# Altium footprint library 2.07-SOT封装.PcbLib: 39 footprints (part 2 of 3)
Each footprint in its own frame and in the unit in brackets; x right, y up, seen from the top. Pads: shape width x height; smd on the part's side, far side on the other; paste and mask are expansions set on the pad; w line width, h text height; cw(c..) or ccw(c..) is an arc to the next point about the centre after c.
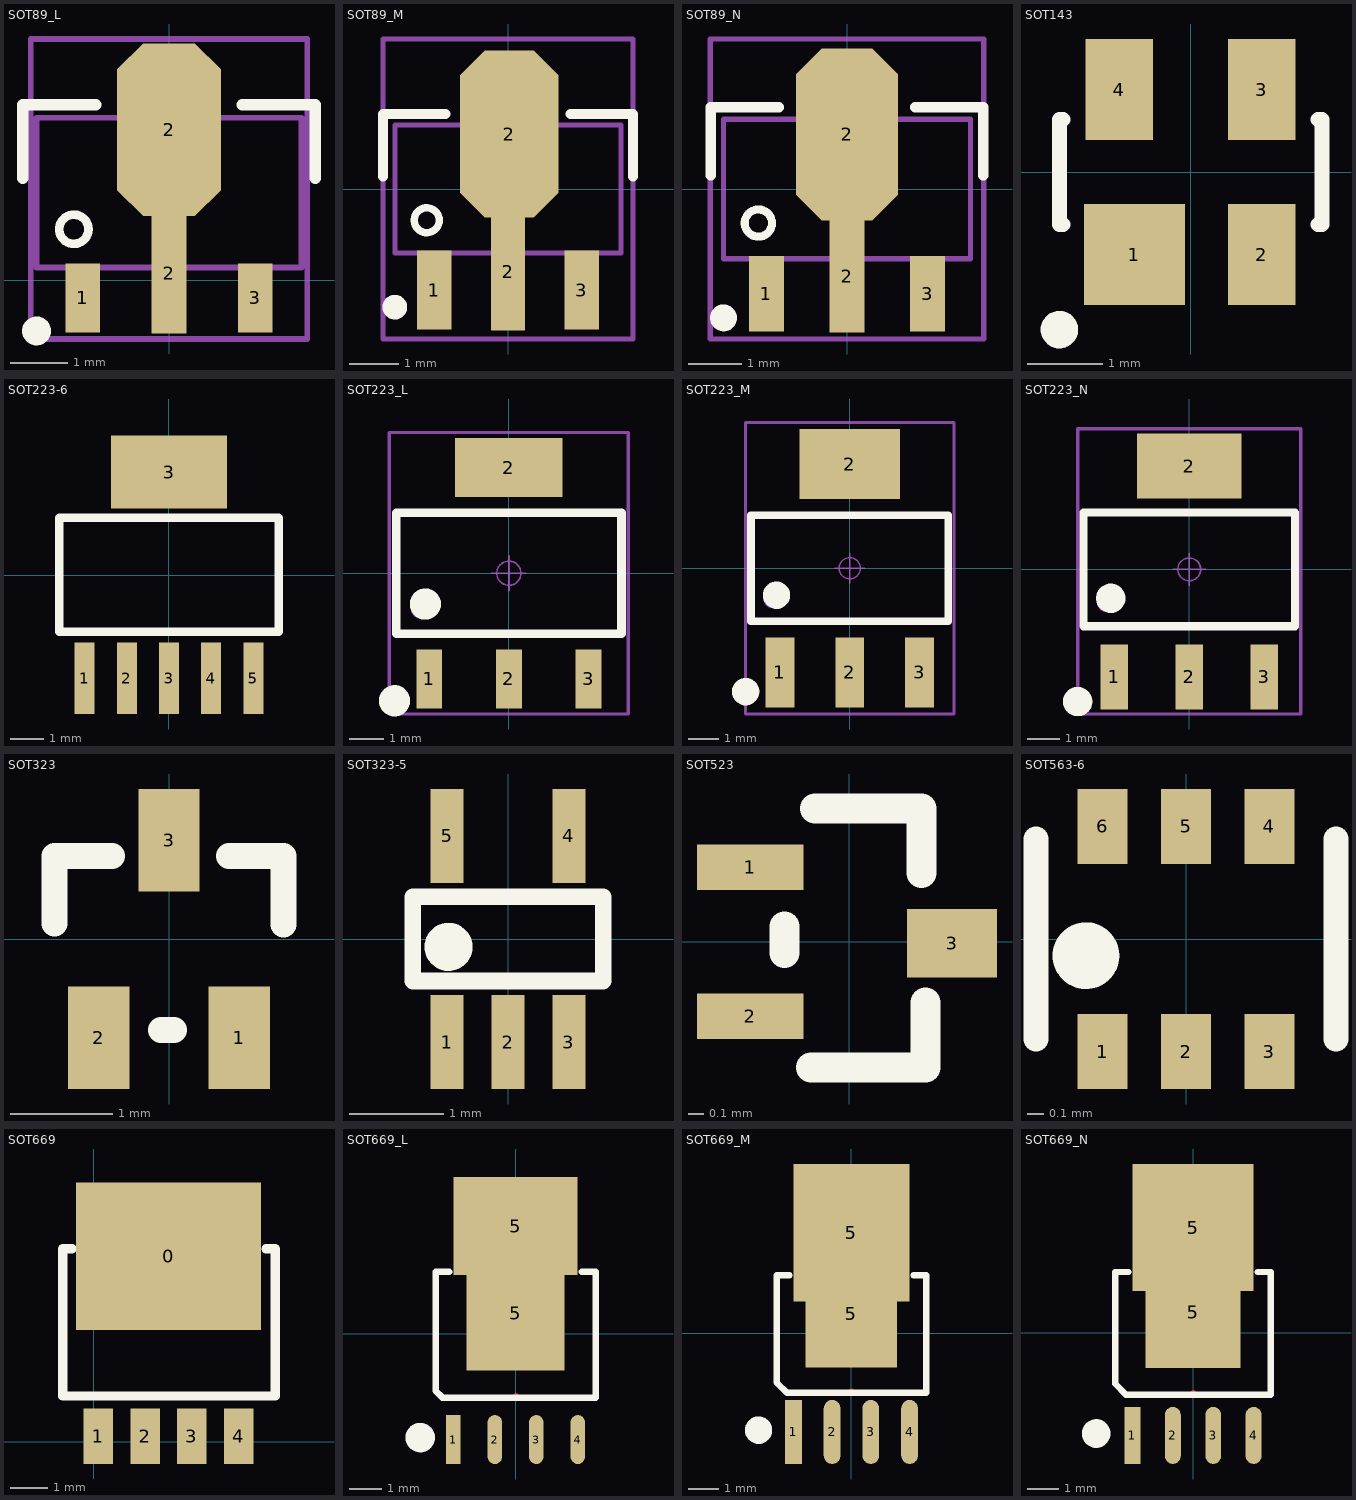
[diagram p1: the footprints below, top view; thin cyan lines are the x and y axes]

## SOT89_L [mm] "4.6x4.3x1.6mm(长宽高)"
height 1.6
pads (4):
  rect 0.6x1.2 smd: 1(-1.5,-0.303) 3(1.5,-0.303)
  rect 0.6x2.1 smd: 2(0,0.127)
  oct 1.8x3 smd: 2(0,2.616)
Top Overlay:
  circle w0.25: c-2.3,-0.876 r0.125
  circle w0.15: c-1.651,0.889 r0.254
  lines w0.2: -2.54,1.778 -2.54,3.048 -1.27,3.048 ; 1.27,3.048 2.54,3.048 2.54,1.778
Mechanical 13:
  circle w0.1: c-1.651,0.889 r0.25
  lines w0.1: -2.3,0.224 2.3,0.224 2.3,2.824 -2.3,2.824 -2.3,0.224
Mechanical 15:
  circle w0.05: c0,1.524 r0.35
  lines w0.05: -0.5,1.524 0.5,1.524 ; 0,1.024 0,2.024
  lines w0.1: -2.4,-1.016 2.4,-1.016 2.4,4.191 -2.4,4.191 -2.4,-1.016
3D body "SOT89.STEP": height 1.6, standoff 0.04, extent -2.3,-0.876 2.3,3.424

## SOT89_M [mm] "4.6x4.3x1.6mm(长宽高) 封装库来自淘宝卖家 ID：黄晶宝石"
height 1.6
pads (4):
  rect 0.7x1.6 smd: 1(-1.5,-2.054) 3(1.5,-2.054)
  rect 0.7x2.4 smd: 2(0,-1.676)
  oct 2x3.4 smd: 2(0.025,1.118)
Top Overlay:
  circle w0.15: c-1.651,-0.635 r0.254
  circle w0.25: c-2.3,-2.4 r0.125
  lines w0.2: -2.54,0.254 -2.54,1.524 -1.27,1.524 ; 1.27,1.524 2.54,1.524 2.54,0.254
Mechanical 13:
  circle w0.1: c-1.651,-0.635 r0.25
  lines w0.1: -2.3,-1.3 -2.3,1.3 2.3,1.3 2.3,-1.3 -2.3,-1.3
Mechanical 15:
  circle w0.05: c0,0 r0.35
  lines w0.05: -0.5,0 0.5,0 ; 0,-0.5 0,0.5
  lines w0.1: -2.54,-3.048 2.54,-3.048 2.54,3.048 -2.54,3.048 -2.54,-3.048
3D body "SOT89.STEP": height 1.6, standoff 0.04, extent -2.3,-2.4 2.3,1.9

## SOT89_N [mm] "4.6x4.3x1.6mm(长宽高) 封装库来自淘宝卖家 ID：黄晶宝石"
height 1.6
pads (4):
  rect 0.65x1.4 smd: 1(-1.5,-1.952) 3(1.5,-1.952)
  rect 0.65x2.1 smd: 2(0,-1.626)
  oct 1.9x3.2 smd: 2(0,1.016)
Top Overlay:
  circle w0.15: c-1.651,-0.635 r0.254
  circle w0.25: c-2.3,-2.4 r0.125
  lines w0.2: -2.54,0.254 -2.54,1.524 -1.27,1.524 ; 1.27,1.524 2.54,1.524 2.54,0.254
Mechanical 13:
  circle w0.1: c-1.651,-0.635 r0.25
  lines w0.1: -2.3,-1.3 -2.3,1.3 2.3,1.3 2.3,-1.3 -2.3,-1.3
Mechanical 15:
  circle w0.05: c0,0 r0.35
  lines w0.05: -0.5,0 0.5,0 ; 0,-0.5 0,0.5
  lines w0.1: -2.55,-2.794 2.55,-2.794 2.55,2.794 -2.55,2.794 -2.55,-2.794
3D body "SOT89.STEP": height 1.6, standoff 0.04, extent -2.3,-2.4 2.3,1.9

## SOT143 [mm] "SOT-143; 4 Leads; Body 3 x 2.6 mm, inc. leads (LxW max)"
height 1.1
pads (4):
  rect 1.35x1.35 smd: 1(-0.75,-1.1)
  rect 0.9x1.35 smd: 2(0.95,-1.1) 3(0.95,1.1) 4(-0.95,1.1)
Top Overlay:
  circle w0.25: c-1.75,-2.1 r0.125
  lines w0.2: -1.7,-0.7 -1.75,-0.7 -1.75,0.7 -1.7,0.7 ; 1.7,-0.7 1.75,-0.7 1.75,0.7 1.7,0.7
3D body: height 0.2, standoff 0, extent -1.149,0.408 -0.803,1.459
3D body: height 0.2, standoff 0, extent 0.784,0.408 1.13,1.459
3D body: height 0.2, standoff 0, extent -1.166,-1.503 -0.82,-0.452
3D body: height 0.2, standoff 0, extent 0.779,-1.464 1.125,-0.414
3D body: height 0.8, standoff 0, extent -1.516,-0.878 1.514,0.931

## SOT223-6 [mm] "封装库来自淘宝卖家 ID：黄晶宝石"
pads (6):
  rect 0.6x2.15 smd: 1(-2.54,-3.1) 2(-1.27,-3.1) 3(0,-3.1) 4(1.27,-3.1) 5(2.54,-3.1)
  rect 3.5x2.2 smd: 3(0,3.1)
Top Overlay:
  lines w0.254: -3.3,-1.7 -3.3,1.73 3.3,1.73 3.3,-1.7 -3.3,-1.7
3D body "User Library-SOT223-6.STEP": height 1.9, standoff -0.17, extent -3.299,-3.681 3.251,3.579

## SOT223_L [mm] "6.4x7x1.6mm(长宽高)"
height 1.7
pads (4):
  rect 0.75x1.7 smd: 1(-2.3,-3.048) 2(0,-3.048) 3(2.3,-3.048)
  rect 3.1x1.7 smd: 2(0,3.048)
Top Overlay:
  circle w0.5: c-3.302,-3.683 r0.2
  circle w0.5: c-2.413,-0.889 r0.2
  lines w0.25: -3.25,-1.75 3.25,-1.75 3.25,1.75 -3.25,1.75 -3.25,-1.75
Mechanical 13:
  circle w0.1: c-2.536,-1.016 r0.25
  lines w0.1: -3.25,-1.75 3.25,-1.75 3.25,1.75 -3.25,1.75 -3.25,-1.75
Mechanical 15:
  circle w0.05: c0,0 r0.35
  lines w0.05: -0.5,0 0.5,0 ; 0,-0.5 0,0.5
  lines w0.1: -3.45,-4.064 3.45,-4.064 3.45,4.064 -3.45,4.064 -3.45,-4.064
3D body "SOT223.STEP": height 1.65, standoff -0.02, extent -3.25,-3.508 3.25,3.508

## SOT223_M [mm] "6.4x7x1.6mm(长宽高)       淘宝ID:黄晶宝石"
height 1.7
pads (4):
  rect 0.95x2.3 smd: 1(-2.3,-3.429) 2(0,-3.429) 3(2.3,-3.429)
  rect 3.3x2.3 smd: 2(0,3.429)
Top Overlay:
  circle w0.5: c-2.413,-0.889 r0.2
  circle w0.5: c-3.429,-4.064 r0.2
  lines w0.25: -3.25,-1.75 -3.25,1.75 3.25,1.75 3.25,-1.75 -3.25,-1.75
Mechanical 13:
  circle w0.1: c-2.536,-1.016 r0.25
  lines w0.1: -3.25,-1.75 3.25,-1.75 3.25,1.75 -3.25,1.75 -3.25,-1.75
Mechanical 15:
  circle w0.05: c0,0 r0.35
  lines w0.05: -0.5,0 0.5,0 ; 0,-0.5 0,0.5
  lines w0.1: -3.429,-4.8 3.429,-4.8 3.429,4.8 -3.429,4.8 -3.429,-4.8
3D body "SOT223.STEP": height 1.65, standoff -0.02, extent -3.25,-3.508 3.25,3.508

## SOT223_N [mm] "6.4x7x1.6mm(长宽高)"
height 1.7
pads (4):
  rect 0.85x2 smd: 1(-2.3,-3.302) 2(0,-3.302) 3(2.3,-3.302)
  rect 3.2x2 smd: 2(0,3.175)
Top Overlay:
  circle w0.5: c-2.413,-0.889 r0.2
  circle w0.5: c-3.429,-4.064 r0.2
  lines w0.25: -3.25,-1.75 -3.25,1.75 3.25,1.75 3.25,-1.75 -3.25,-1.75
Mechanical 13:
  circle w0.1: c-2.536,-1.016 r0.25
  lines w0.1: -3.25,-1.75 3.25,-1.75 3.25,1.75 -3.25,1.75 -3.25,-1.75
Mechanical 15:
  circle w0.05: c0,0 r0.35
  lines w0.05: -0.5,0 0.5,0 ; 0,-0.5 0,0.5
  lines w0.1: -3.429,-4.445 3.429,-4.445 3.429,4.318 -3.429,4.318 -3.429,-4.445
3D body "SOT223.STEP": height 1.65, standoff -0.02, extent -3.25,-3.508 3.25,3.508

## SOT323 [mm] "封装库来自淘宝卖家 ID：黄晶宝石"
pads (3):
  rect 0.6x1 smd: 1(0.686,-0.965) 2(-0.686,-0.965) 3(0,0.965)
Top Overlay:
  lines w0.254: -1.118,0.152 -1.118,0.813 -0.559,0.813 ; -0.076,-0.889 0.051,-0.889 ; 0.584,0.813 1.118,0.813 1.118,0.143
3D body "SOT323 (SC70-3)-1.STEP": height 1.1, standoff 0, extent -1.092,-1.097 1.108,1.148

## SOT323-5 [mm] "SC70 封装库来自淘宝卖家 ID：黄晶宝石"
pads (5):
  rect 0.35x1 smd: 1(-0.65,-1.1) 2(0,-1.1) 3(0.65,-1.1) 4(0.65,1.1) 5(-0.65,1.1)
Top Overlay:
  circle w0.254: c-0.635,-0.084 r0.13
  lines w0.178: -1.016,-0.447 -1.016,0.449 1.016,0.449 1.016,-0.447 -1.016,-0.447
3D body "sot353.step": height 1, standoff 0, extent -1.05,-1.158 1.05,1.142

## SOT523 [mil] "封装库来自淘宝卖家 ID：黄晶宝石"
pads (3):
  rect 28x12 smd: 1(-25.98,19.58) 2(-25.98,-19.58)
  rect 23.62x18 smd: 3(26.98,-0.46)
Top Overlay:
  lines w7.87: -17,-3 -17,4 ; -10,-33 20,-33 20,-16 ; -9,35 19,35 19,18
3D body "SOT-523.step": height 31.5, standoff 0, extent -32.5,-31.49 30.49,31.5

## SOT563-6 [mm] "封装库来自淘宝卖家 ID：黄晶宝石"
pads (6):
  rect 0.3x0.45 smd: 1(-0.5,-0.675) 2(0,-0.675) 3(0.5,-0.675) 4(0.5,0.675) 5(0,0.675) 6(-0.5,0.675)
Top Overlay:
  circle w0.2: c-0.6,-0.1 r0.1
  lines w0.15: -0.9,-0.6 -0.9,0.6 ; 0.9,-0.6 0.9,0.6
3D body "SW3dPS-SOT-563.STEP": height 0.58, standoff 0, extent -0.8,-0.8 0.8,0.826

## SOT669 [mm] "IFPAK       淘宝ID:黄晶宝石"
pads (5):
  rect 5x4 smd: 0(2.032,5.029)
  rect 0.8x1.5 smd: 1(0.127,0.152) 2(1.397,0.152) 3(2.667,0.152) 4(3.937,0.152)
Top Overlay:
  lines w0.254: -0.584,5.232 -0.838,5.232 -0.838,1.245 4.928,1.245 4.928,5.232 4.674,5.232
3D body "User Library-SOT669-CW.step": height 1.55, standoff 0.35, extent -0.418,-0.002 4.482,6.426

## SOT669_L [mm] "6mm*4.9mm*1mm(长*宽*高）"
pads (6):
  rect 0.45x1.5 smd: 1(-1.905,-3.234)
  oval 0.45x1.5 smd: 2(-0.635,-3.234) 3(0.635,-3.234) 4(1.905,-3.234)
  rect 3x3.5 smd: 5(0,0.635)
  rect 3.8x3 smd: 5(0,3.302)
Top Layer:
  lines w0.203: 0,-1.905 0,-1.905
Top Overlay:
  circle w0.5: c-2.921,-3.175 r0.2
  lines w0.203: -2.032,1.905 -2.45,1.905 -2.45,-1.741 -2.241,-1.95 2.45,-1.95 2.45,1.905 2.032,1.905
Mechanical 15:
  circle w0.05: c0,0 r0.35
  lines w0.05: -0.5,0 0.5,0 ; 0,-0.5 0,0.5
3D body "SOT669.STEP": height 1.1, standoff -0.01, extent -2.45,-3.022 2.45,3.1

## SOT669_M [mm] "6mm*4.9mm*1mm(长*宽*高）"
pads (6):
  rect 0.55x2.1 smd: 1(-1.905,-3.234)
  oval 0.55x2.1 smd: 2(-0.635,-3.234) 3(0.635,-3.234) 4(1.905,-3.234)
  rect 3x3.5 smd: 5(0,0.635)
  rect 3.8x4.5 smd: 5(0,3.302)
Top Layer:
  lines w0.203: 0,-1.905 0,-1.905
Top Overlay:
  circle w0.5: c-3.048,-3.175 r0.2
  lines w0.203: -2.032,1.905 -2.45,1.905 -2.45,-1.614 -2.114,-1.95 2.45,-1.95 2.45,1.905 2.032,1.905
Mechanical 15:
  circle w0.05: c0,0 r0.35
  lines w0.05: -0.5,0 0.5,0 ; 0,-0.5 0,0.5
3D body "SOT669.STEP": height 1.1, standoff -0.01, extent -2.45,-3.022 2.45,3.1

## SOT669_N [mm] "6mm*4.9mm*1mm(长*宽*高）"
pads (6):
  rect 0.5x1.8 smd: 1(-1.905,-3.234)
  oval 0.5x1.8 smd: 2(-0.635,-3.234) 3(0.635,-3.234) 4(1.905,-3.234)
  rect 3x3.5 smd: 5(0,0.635)
  rect 3.8x4 smd: 5(0,3.302)
Top Layer:
  lines w0.203: 0,-1.905 0,-1.905
Top Overlay:
  circle w0.5: c-3.048,-3.175 r0.2
  lines w0.203: -2.032,1.905 -2.45,1.905 -2.45,-1.614 -2.114,-1.95 2.45,-1.95 2.45,1.905 2.032,1.905
Mechanical 15:
  circle w0.05: c0,0 r0.35
  lines w0.05: -0.5,0 0.5,0 ; 0,-0.5 0,0.5
3D body "SOT669.STEP": height 1.1, standoff -0.01, extent -2.45,-3.022 2.45,3.1